# Altium schematic symbol library ClarinetSensor.SchLib: 12 symbols
Pins are listed as number, name and electrical type; pins without a type are passive.

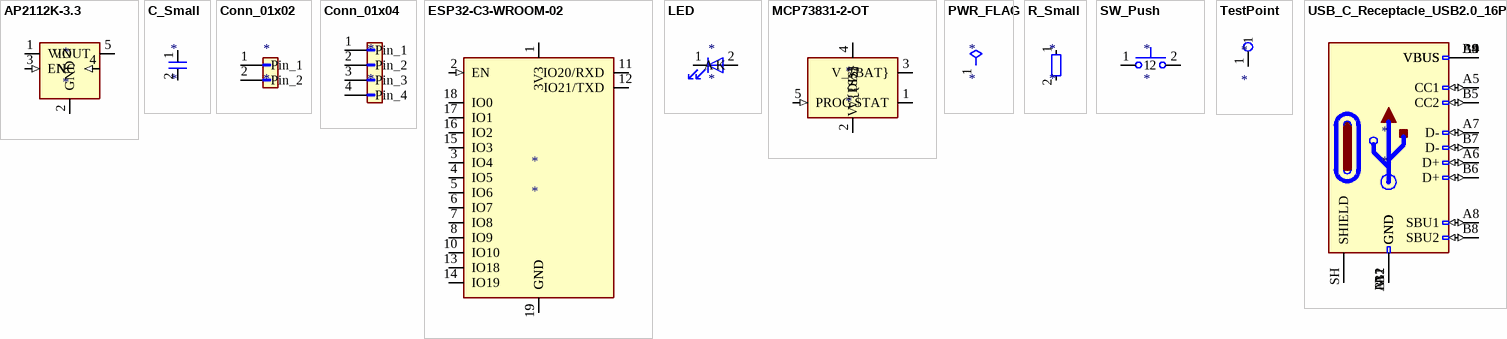
[diagram p0: symbols AP2112K-3.3 to USB_C_Receptacle_USB2.0_16P]

## AP2112K-3.3
designator *
pins: 1 VIN (power), 2 GND (power), 3 EN (in), 4 NC (in), 5 VOUT (power)

## C_Small
designator *
pins: 1, 2

## Conn_01x02
designator *
pins: 1 Pin_1, 2 Pin_2

## Conn_01x04
designator *
pins: 1 Pin_1, 2 Pin_2, 3 Pin_3, 4 Pin_4

## ESP32-C3-WROOM-02
designator *
pins: 1 3V3 (power), 2 EN (in), 3 IO4 (io), 4 IO5 (io), 5 IO6 (io), 6 IO7 (io), 7 IO8 (io), 8 IO9 (io), 9 GND (power), 10 IO10 (io), 11 IO20/RXD (io), 12 IO21/TXD (io), 13 IO18 (io), 14 IO19 (io), 15 IO3 (io), 16 IO2 (io), 17 IO1 (io), 18 IO0 (io), 19 GND

## LED
designator *
pins: 1 K, 2 A

## MCP73831-2-OT
designator *
pins: 1 STAT (hiz), 2 V_{SS} (power), 3 V_{BAT} (power), 4 V_{DD} (power), 5 PROG (in)

## PWR_FLAG
designator *  (graphical)
pins: 1 (power)

## R_Small
designator *
pins: 1, 2

## SW_Push
designator *
pins: 1, 2

## TestPoint
designator *
pins: 1

## USB_C_Receptacle_USB2.0_16P
designator *
pins: A1 GND, A4 VBUS, A5 CC1 (io), A6 D+ (io), A7 D- (io), A8 SBU1 (io), A9 VBUS, A12 GND, B1 GND, B4 VBUS, B5 CC2 (io), B6 D+ (io), B7 D- (io), B8 SBU2 (io), B9 VBUS, B12 GND, SH SHIELD